# Altium footprint library Discrete_semiconductors.PcbLib: 49 footprints (part 2 of 4)
Each footprint in its own frame and in the unit in brackets; x right, y up, seen from the top. Pads: shape width x height; smd on the part's side, far side on the other; paste and mask are expansions set on the pad; w line width, h text height; cw(c..) or ccw(c..) is an arc to the next point about the centre after c.
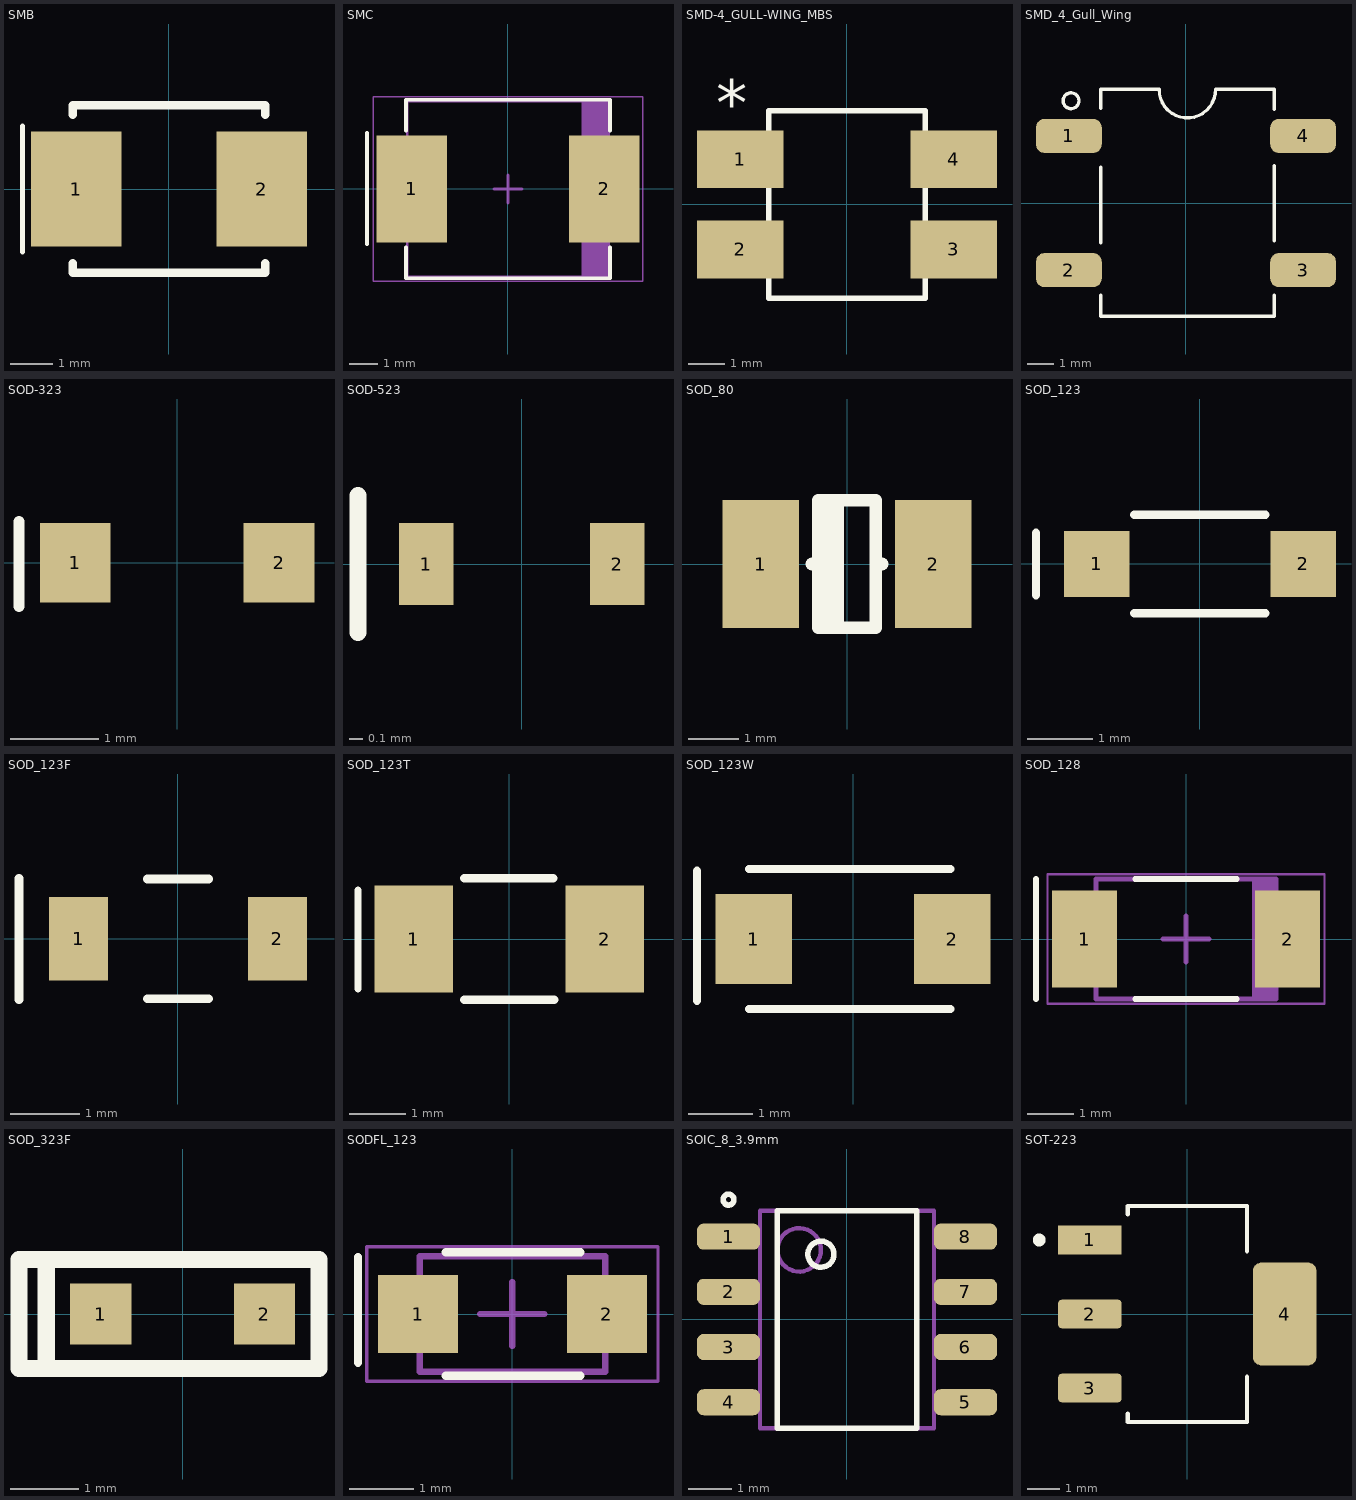
[diagram p1: the footprints below, top view; thin cyan lines are the x and y axes]

## SMB [mm] "/20200109/V-A.Patino"
pads (2):
  rect 2.159x2.743 smd: 1(-2.21,0) 2(2.21,0)
Top Overlay:
  lines w0.127: -3.5,-1.5 -3.5,1.5
  lines w0.2: -2.3,-1.772 -2.3,-2 2.3,-2 2.3,-1.772 ; -2.3,1.772 -2.3,2 2.3,2 2.3,1.772
3D body: height 2.42, standoff 0, extent -2.3,-1.975 2.3,1.975

## SMC [mm] "DO-214AB / 20190515/V-A.Patino"
pads (2):
  rect 2.5x3.79 smd: 1(-3.4,0) 2(3.4,0)
Top Overlay:
  lines w0.127: -4.978,-1.956 -4.978,1.981 ; -3.6,-2.05 -3.6,-3.15 3.6,-3.15 3.6,-2.05 ; -3.6,2.05 -3.6,3.15 3.6,3.15 3.6,2.05
Mechanical 1:
  rectangle: 2.599,-3.11 3.555,3.11
  lines w0.1: -3.555,-3.11 3.555,-3.11 3.555,3.11 -3.555,3.11 -3.555,-3.11
Mechanical 15:
  lines w0.05: -4.75,-3.25 -4.75,3.25 4.75,3.25 4.75,-3.25 -4.75,-3.25
  lines w0.1: -0.5,0 0.5,0 ; 0,-0.5 0,0.5
3D body "DIOM6959X25L.step": height 2.5, standoff 0, extent -3.775,-3.11 3.775,3.11

## SMD-4_GULL-WING_MBS [mm] "MBS / 20220314 / E.Naranjo"
pads (4):
  rect 2.4x1.6 smd: 1(-2.959,1.25) 2(-2.959,-1.25) 3(2.959,-1.25) 4(2.959,1.25)
Top Overlay:
  lines w0.152: -2.172,-1.964 -2.172,-2.603 2.172,-2.603 2.172,-1.964 ; -2.172,-0.536 -2.172,0.536 ; -2.172,1.964 -2.172,2.604 2.172,2.604 2.172,1.964 ; 2.172,-0.536 2.172,0.536
  text "*" at -3.631,2.188 h1.27
3D body "SOIC_45STR_SME.step": height 2.7, standoff 0, extent -3.505,-2.476 3.505,2.476

## SMD_4_Gull_Wing [mm] "SDIP-4 / 20190225 / C-A.Serna.A"
pads (4):
  rrect50% 2.5x1.3 smd: 1(-4.45,2.55) 2(-4.45,-2.55) 3(4.45,-2.55) 4(4.45,2.55)
Top Overlay:
  circle w0.127: c-4.369,3.886 r0.3
  lines w0.127: -3.243,-3.495 -3.243,-4.308 3.351,-4.308 3.351,-3.495 ; -3.243,-1.509 -3.243,1.356 ; -3.243,3.59 -3.243,4.326 -1.02,4.326 ccw(c0.05,4.303) 1.121,4.323 3.351,4.323 3.351,3.566 ; 3.351,-1.438 3.351,1.428
3D body "SO4_DFS-M.step": height 2.92, standoff 0, extent -5.136,-4.13 5.176,4.15

## SOD-323 [mm] "SC-76,USC/ 20211220 / N-A.Potosi"
height 1.02
pads (2):
  rect 0.8x0.9 smd: 1(-1.15,0) 2(1.15,0)
Top Overlay:
  lines w0.127: -1.784,-0.492 -1.784,0.465
3D body "USC-ZKN_r.stp": height 0.91, standoff 0.01, extent -1.25,-0.625 1.25,0.625

## SOD-523 [mm] "SC-79/20210805/C-A.Serna.A"
pads (2):
  rect 0.4x0.6 smd: 1(-0.7,0) 2(0.7,0)
Top Overlay:
  lines w0.127: -1.2,-0.5 -1.2,0.5
3D body "SOD-523F.step": height 0.69, standoff -0.01, extent -0.785,-0.397 0.815,0.4

## SOD_80 [mil] "SOD80 / 20200109 / V-A.Patino"
pads (2):
  rect 60x100 smd: 1(-67.5,0) 2(67.5,0)
Top Overlay:
  lines w10: -27.5,0 -22.5,0 ; -12.5,-50 -12.5,50 ; -7.5,-50 -7.5,50 ; 22.5,0 27.5,0 ; -22.5,-50 -22.5,50 22.5,50 22.5,-50 -22.5,-50
3D body "User Library-sod80-1.step": height 56.1, standoff -0.98, extent -68.89,-28.54 68.91,28.55

## SOD_123 [mm] "/ 20191030 / V-A.Patino"
pads (2):
  rect 1x1 smd: 1(-1.575,0) 2(1.575,0)
Top Overlay:
  lines w0.127: -2.5,-0.475 -2.5,0.475 ; -1,-0.75 1,-0.75 ; -1,0.749 1,0.749
3D body "SOD123.step": height 1.28, standoff 0.01, extent -1.926,-0.8 1.774,0.8

## SOD_123F [mm] "SOD_123F/20220518/F-A.Ospina"
pads (2):
  rect 0.85x1.2 smd: 1(-1.43,0) 2(1.43,0)
Top Overlay:
  lines w0.127: -2.289,-0.873 -2.289,0.868 ; -0.44,-0.863 0.44,-0.863 ; -0.44,0.863 0.44,0.863
3D body "B0530WF RHG.STEP": height 1.16, standoff 0.01, extent -1.8,-0.8 1.8,0.8

## SOD_123T [mil] "SOD_123T/20220518/F-A.Ospina"
pads (2):
  rect 55x75 smd paste+0: 1(-67,0) 2(67,0)
Top Overlay:
  lines w5: -106.06,-34.91 -106.06,34.48
  lines w6: -31.56,-42.5 31.54,-42.5 ; -31.42,42.5 31.11,42.5
3D body "CGRM.step": height 67.24, standoff 0, extent -77.01,-37.49 77,37.47

## SOD_123W [mm] "SOD123W / 20190225 / C-A.Serna.A"
height 1.02
pads (2):
  rect 1.2x1.4 smd: 1(-1.55,0) 2(1.55,0)
Top Overlay:
  lines w0.127: -2.438,-0.965 -2.438,1.067 ; -1.625,-1.092 1.525,-1.092 ; -1.625,1.092 1.525,1.092
3D body: height 1.02, standoff 0.1, extent -1.526,-0.95 1.374,0.95

## SOD_128 [mm] "20190515/ V-A.Patino"
pads (2):
  rect 1.4x2.1 smd: 1(-2.2,0) 2(2.2,0)
Top Overlay:
  lines w0.127: -3.251,-1.3 -3.251,1.3 ; -1.1,-1.3 1.1,-1.3 ; -1.1,1.3 1.1,1.3
Mechanical 1:
  rectangle: 1.425,-1.3 1.95,1.3
  lines w0.1: -1.95,-1.3 -1.95,1.3 1.95,1.3 1.95,-1.3 -1.95,-1.3
Mechanical 15:
  lines w0.05: -3,-1.4 -3,1.4 3,1.4 3,-1.4 -3,-1.4
  lines w0.1: -0.5,0 0.5,0 ; 0,-0.5 0,0.5
3D body "SODFL470X108-2L.step": height 1.08, standoff 0, extent -2.35,-1.3 2.35,1.3

## SOD_323F [mm] "SC-90 / C-A.Serna.A / 20190709"
pads (2):
  rect 0.9x0.9 smd: 1(-1.2,0) 2(1.2,0)
Top Overlay:
  lines w0.254: -2,-0.8 -2.4,-0.8 -2.4,0.8 -2,0.8 ; -2,-0.8 -2,0.8 ; -2,-0.8 -2,0.8 ; -2,-0.8 2,-0.8 2,0.8 -2,0.8
3D body "User Library-SOD323F.step": height 0.75, standoff -0.01, extent -1.4,-0.675 1.4,0.675

## SODFL_123 [mm] "SOD-123F, SOD-123FL / 20200623/ C-E.Rincon"
height 0.98
pads (2):
  rect 1.25x1.22 smd: 1(-1.475,0) 2(1.475,0)
Top Overlay:
  lines w0.127: -2.413,-0.762 -2.413,0.889 ; -1.041,-0.965 1.067,-0.965 ; -1.041,0.965 1.067,0.965
Mechanical 1:
  lines w0.1: -1.45,-0.9 1.45,-0.9 1.45,0.9 -1.45,0.9 -1.45,-0.9
Mechanical 15:
  lines w0.05: -2.275,-1.05 -2.275,1.05 2.275,1.05 2.275,-1.05 -2.275,-1.05
  lines w0.1: -0.5,0 0.5,0 ; 0,-0.5 0,0.5
3D body: height 0.98, standoff 0, extent -1.45,-0.9 1.45,0.9

## SOIC_8_3.9mm [mm] "/ 20210217 / V-A.Patino"
pads (8):
  rrect50% 1.45x0.6 smd: 1(-2.725,1.905) 2(-2.725,0.635) 3(-2.725,-0.635) 4(-2.725,-1.905) 5(2.725,-1.905) 6(2.725,-0.635) 7(2.725,0.635) 8(2.725,1.905)
Top Overlay:
  circle w0.127: c-0.6,1.5 r0.3
  circle w0.127: c-2.725,2.755 r0.125
  lines w0.127: -1.6,-2.5 1.6,-2.5 1.6,2.5 -1.6,2.5 -1.6,-2.5
Mechanical 1:
  circle w0.1: c-1.1,1.6 r0.5
  lines w0.1: -2,-2.5 -2,2.5 2,2.5 2,-2.5 -2,-2.5
3D body "SOIC127P600X173-8N.step": height 1.73, standoff 0, extent -3.01,-2.5 3.01,2.5

## SOT-223 [mm] "/20221117/J-A.Sepulveda"
pads (4):
  rect 1.97x0.89 smd: 1(-3.025,2.3)
  rrect25% 1.97x0.89 smd: 2(-3.025,0) 3(-3.025,-2.3)
  rrect25% 1.97x3.19 smd: 4(3.025,0)
Top Overlay:
  circle w0.2: c-4.6,2.3 r0.1
  lines w0.127: -1.85,-3.1 -1.85,-3.35 1.85,-3.35 1.85,-1.95 ; -1.85,3.1 -1.85,3.35 1.85,3.35 1.85,1.95
3D body "BCP56-16TF.STEP": height 1.71, standoff -0.09, extent -3.5,-3.25 3.5,3.25